# EAGLE library part PSA2-6+ (library PSA2-6+)
RF Amplifier SMT Low Noise Amplifier, DC - 7 GHz, 50? Source: Datasheet <https://www.mouser.cn/datasheet/2/1030/PSA2_6_2b-3421589.pdf>
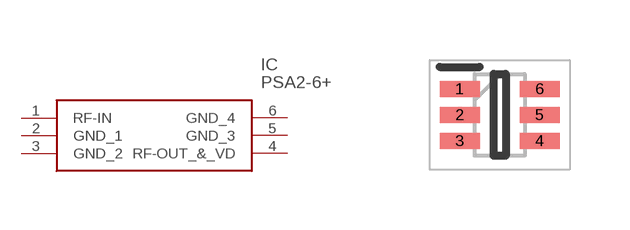
[diagram p0: symbol with the pads of SOT65P215X100-6N; footprint SOT65P215X100-6N]

Designator prefix IC

## PSA2-6+ (Description: RF Amplifier SMT Low Noise Amplifier, DC - 7 GHz, 50?; Height: 1mm; Manufacturer_Name: Mini-Circuits; Manufacturer_Part_Number: PSA2-6+; Mouser_Part_Number: 139-PSA2-6+; Mouser_Price-Stock: https://www.mouser.co.uk/ProductDetail/Mini-Circuits/PSA2-6%2b?qs=ZcfC38r4PouoCLCeNyH1xw%3D%3D)  [SOT65P215X100-6N]
1  RF-IN
2  GND_1
3  GND_2
4  RF-OUT_&_VD
5  GND_3
6  GND_4

## Footprint SOT65P215X100-6N (pad centres in mm)
SOT-363
smd 1 x 0.4: 1 -1,0.65; 2 -1,0; 3 -1,-0.65; 4 1,-0.65; 5 1,0; 6 1,0.65